# Altium integrated library Analog Devices Data Converters Analog-to-Digital Converters.IntLib: 2404 symbols (part 244 of 346)
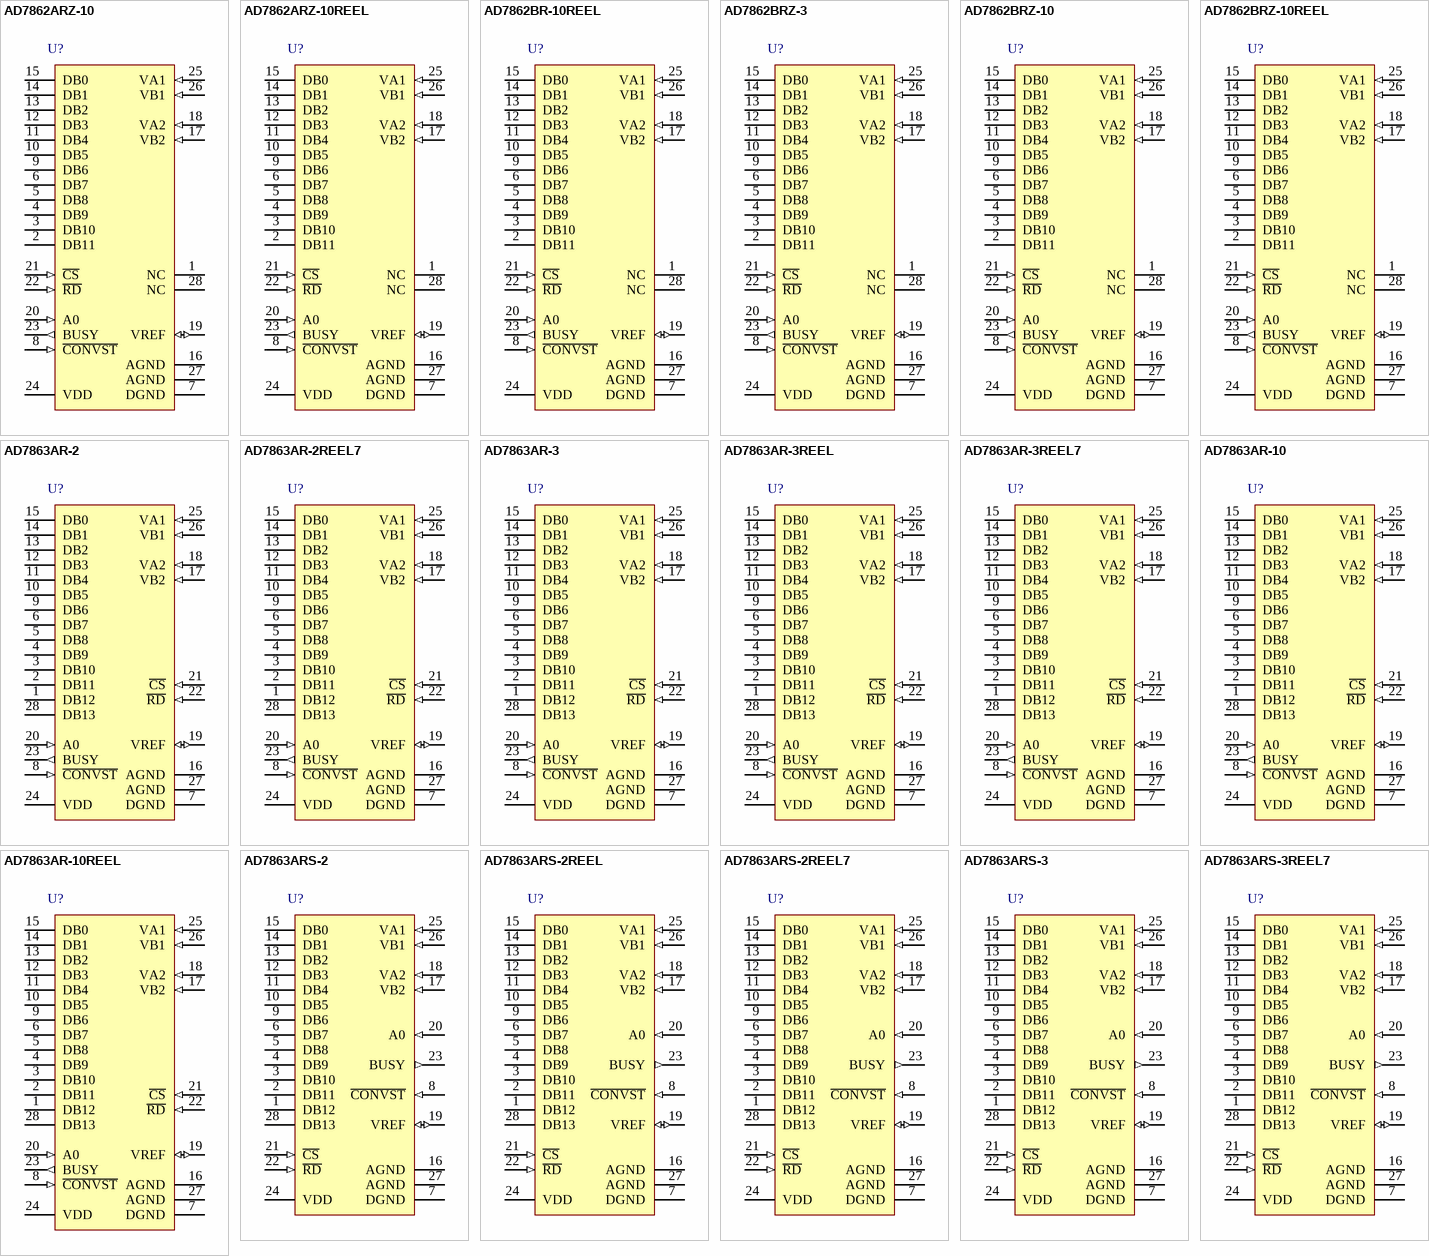
[diagram p285: symbols AD7862ARZ-10 to AD7863ARS-3REEL7]

## AD7863AR-3
designator U?
Quad 14-Bit Analog-to-Digital Converter with Parallel Interface, Simultaneous Sampling, 175KSPS, -40 to +85 degC, RW-28, Tube; Generic Part Number: AD7863; Manufacturer: Analog Devices; PartNumber: AD7863AR-3; Resolution (Bits): 14; Channels: 4; Throughput Rate (SPS): 175K; Interface: Par; DatasheetVersion: Rev.B; PackageVersion: 060706-A; PackageReference: RW-28; PackageDescription: 28-Lead Standard Small Outline Package [SOIC_W]; Supplier 1: Digi-Key; Supplier Part Number 1: AD7863AR-3-ND; Supplier 2: Mouser; Supplier Part Number 2: 584-AD7863AR-3; RoHS: N; Packing: Tube; Mounting Technology: Surface Mount; Code_JEDEC: MS-013-AE; ComponentLink1Description: Manufacturer URL; ComponentLink1URL: http://www.analog.com/en/index.html; ComponentLink2Description: Datasheet; ComponentLink2URL: http://www.analog.com/static/imported-files/data_sheets/AD7863.pdf; ComponentLink3Description: Package Specification; ComponentLink3URL: http://www.analog.com/static/imported-files/packages/35833120341221RW_28.pdf; ComponentLink4Description: Product URL; ComponentLink4URL: http://www.analog.com/en/analog-to-digital-converters/ad-converters/ad7863/products/product.html
footprint RW-28_N (SOIC, 28-Leads, Body 17.9x7.5mm, Pitch 1.27mm, IPC Medium Density)
footprint RW-28_L (SOIC, 28-Leads, Body 17.9x7.5mm, Pitch 1.27mm, IPC High Density)
footprint RW-28_M (SOIC, 28-Leads, Body 17.9x7.5mm, Pitch 1.27mm, IPC Low Density)
pins: 1 DB12 (hiz) "Data Bit 12 to Data Bit 7. Three-state TTL outputs.", 2 DB11 (hiz) "Data Bit 12 to Data Bit 7. Three-state TTL outputs.", 3 DB10 (hiz) "Data Bit 12 to Data Bit 7. Three-state TTL outputs.", 4 DB9 (hiz) "Data Bit 12 to Data Bit 7. Three-state TTL outputs.", 5 DB8 (hiz) "Data Bit 12 to Data Bit 7. Three-state TTL outputs.", 6 DB7 (hiz) "Data Bit 12 to Data Bit 7. Three-state TTL outputs.", 7 DGND (power) "Digital Ground. Ground reference for digital circuitry.", 8 ~{CONVST} (in) "Convert Start Input. Logic input. A high-to-low transition on this input puts both track/holds into their hold mode and starts conversion on both channels.", 9 DB6 (hiz) "Data Bit 6 to Data Bit 0. Three-state TTL outputs.", 10 DB5 (hiz) "Data Bit 6 to Data Bit 0. Three-state TTL outputs.", 11 DB4 (hiz) "Data Bit 6 to Data Bit 0. Three-state TTL outputs.", 12 DB3 (hiz) "Data Bit 6 to Data Bit 0. Three-state TTL outputs.", 13 DB2 (hiz) "Data Bit 6 to Data Bit 0. Three-state TTL outputs.", 14 DB1 (hiz) "Data Bit 6 to Data Bit 0. Three-state TTL outputs.", 15 DB0 (hiz) "Data Bit 6 to Data Bit 0. Three-state TTL outputs.", 16 AGND (power) "Analog Ground. Ground reference for mux, track/hold, reference, and DAC circuitry.", 17 VB2 (in) "Input Number 2 of Channel B. Analog input voltage ranges of +/-10 V (AD7863-10), +/-2.5 V (AD7863-3), and 0 V to 2.5 V (AD7863-2).", 18 VA2 (in) "Input Number 2 of Channel A. Analog input voltage ranges of +/-10 V (AD7863-10), +/-2.5 V (AD7863-3), and 0 V to 2.5 V (AD7863-2).", 19 VREF (io) "Reference Input/Output. This pin is connected to the internal reference through a series resistor and is the output reference source for the analog-to-digital converter. The nominal reference voltage is 2.5 V, and this (See Datasheet)", 20 A0 (in) "Multiplexer Select. This input is used in conjunction with C\O\N\V\S\T\  to determine on which pair of channels the conversion is to be performed. If A0 is low when the conversion is initiated, then channels VA1 and VA2 are (See Datasheet)", 21 ~{CS} (in) "Chip Select Input. Active low logic input. The device is selected when this input is active.", 22 ~{RD} (in) "Read Input. Active low logic input. This input is used in conjunction with C\S\  low to enable the data outputs and read a conversion result from the AD7863.", 23 BUSY (out) "Busy Output. The busy output is triggered high by the falling edge of C\O\N\V\S\T\  and remains high until conversion is completed.", 24 VDD (power) "Analog and Digital Positive Supply Voltage, 5.0 V +/- 5%.", 25 VA1 (in) "Input Number 1 of Channel A. Analog input voltage ranges of +/-10 V (AD7863-10), +/-2.5 V (AD7863-3), and 0 V to 2.5 V (AD7863-2).", 26 VB1 (in) "Input Number 1 of Channel B. Analog input voltage ranges of +/-10 V (AD7863-10), +/-2.5 V (AD7863-3), and 0 V to 2.5 V (AD7863-2).", 27 AGND (power) "Analog Ground. Ground reference for mux, track/hold, reference, and DAC circuitry.", 28 DB13 (hiz) "Data Bit 13 (MSB). Three-state TTL output. Output coding is twos complement for the AD7863-10 and AD7863-3. Output coding is straight (natural) binary for the AD7863-2."

## AD7863AR-3REEL
designator U?
Quad 14-Bit Analog-to-Digital Converter with Parallel Interface, Simultaneous Sampling, 175KSPS, 0 to +70 degC, RW-28, Reel; Generic Part Number: AD7863; Manufacturer: Analog Devices; PartNumber: AD7863AR-3REEL; Resolution (Bits): 14; Channels: 4; Throughput Rate (SPS): 175K; Interface: Par; DatasheetVersion: Rev.B; PackageVersion: 060706-A; PackageReference: RW-28; PackageDescription: 28-Lead Standard Small Outline Package [SOIC_W]; Supplier 1: Digi-Key; Supplier Part Number 1: AD7863AR-3REEL-ND; Supplier 2: Mouser; Supplier Part Number 2: 584-AD7863AR-3R; RoHS: N; Packing: Reel; Mounting Technology: Surface Mount; Code_JEDEC: MS-013-AE; ComponentLink1Description: Manufacturer URL; ComponentLink1URL: http://www.analog.com/en/index.html; ComponentLink2Description: Datasheet; ComponentLink2URL: http://www.analog.com/static/imported-files/data_sheets/AD7863.pdf; ComponentLink3Description: Package Specification; ComponentLink3URL: http://www.analog.com/static/imported-files/packages/35833120341221RW_28.pdf; ComponentLink4Description: Product URL; ComponentLink4URL: http://www.analog.com/en/analog-to-digital-converters/ad-converters/ad7863/products/product.html
footprint RW-28_N (SOIC, 28-Leads, Body 17.9x7.5mm, Pitch 1.27mm, IPC Medium Density)
footprint RW-28_L (SOIC, 28-Leads, Body 17.9x7.5mm, Pitch 1.27mm, IPC High Density)
footprint RW-28_M (SOIC, 28-Leads, Body 17.9x7.5mm, Pitch 1.27mm, IPC Low Density)
pins: 1 DB12 (hiz) "Data Bit 12 to Data Bit 7. Three-state TTL outputs.", 2 DB11 (hiz) "Data Bit 12 to Data Bit 7. Three-state TTL outputs.", 3 DB10 (hiz) "Data Bit 12 to Data Bit 7. Three-state TTL outputs.", 4 DB9 (hiz) "Data Bit 12 to Data Bit 7. Three-state TTL outputs.", 5 DB8 (hiz) "Data Bit 12 to Data Bit 7. Three-state TTL outputs.", 6 DB7 (hiz) "Data Bit 12 to Data Bit 7. Three-state TTL outputs.", 7 DGND (power) "Digital Ground. Ground reference for digital circuitry.", 8 ~{CONVST} (in) "Convert Start Input. Logic input. A high-to-low transition on this input puts both track/holds into their hold mode and starts conversion on both channels.", 9 DB6 (hiz) "Data Bit 6 to Data Bit 0. Three-state TTL outputs.", 10 DB5 (hiz) "Data Bit 6 to Data Bit 0. Three-state TTL outputs.", 11 DB4 (hiz) "Data Bit 6 to Data Bit 0. Three-state TTL outputs.", 12 DB3 (hiz) "Data Bit 6 to Data Bit 0. Three-state TTL outputs.", 13 DB2 (hiz) "Data Bit 6 to Data Bit 0. Three-state TTL outputs.", 14 DB1 (hiz) "Data Bit 6 to Data Bit 0. Three-state TTL outputs.", 15 DB0 (hiz) "Data Bit 6 to Data Bit 0. Three-state TTL outputs.", 16 AGND (power) "Analog Ground. Ground reference for mux, track/hold, reference, and DAC circuitry.", 17 VB2 (in) "Input Number 2 of Channel B. Analog input voltage ranges of +/-10 V (AD7863-10), +/-2.5 V (AD7863-3), and 0 V to 2.5 V (AD7863-2).", 18 VA2 (in) "Input Number 2 of Channel A. Analog input voltage ranges of +/-10 V (AD7863-10), +/-2.5 V (AD7863-3), and 0 V to 2.5 V (AD7863-2).", 19 VREF (io) "Reference Input/Output. This pin is connected to the internal reference through a series resistor and is the output reference source for the analog-to-digital converter. The nominal reference voltage is 2.5 V, and this (See Datasheet)", 20 A0 (in) "Multiplexer Select. This input is used in conjunction with C\O\N\V\S\T\  to determine on which pair of channels the conversion is to be performed. If A0 is low when the conversion is initiated, then channels VA1 and VA2 are (See Datasheet)", 21 ~{CS} (in) "Chip Select Input. Active low logic input. The device is selected when this input is active.", 22 ~{RD} (in) "Read Input. Active low logic input. This input is used in conjunction with C\S\  low to enable the data outputs and read a conversion result from the AD7863.", 23 BUSY (out) "Busy Output. The busy output is triggered high by the falling edge of C\O\N\V\S\T\  and remains high until conversion is completed.", 24 VDD (power) "Analog and Digital Positive Supply Voltage, 5.0 V +/- 5%.", 25 VA1 (in) "Input Number 1 of Channel A. Analog input voltage ranges of +/-10 V (AD7863-10), +/-2.5 V (AD7863-3), and 0 V to 2.5 V (AD7863-2).", 26 VB1 (in) "Input Number 1 of Channel B. Analog input voltage ranges of +/-10 V (AD7863-10), +/-2.5 V (AD7863-3), and 0 V to 2.5 V (AD7863-2).", 27 AGND (power) "Analog Ground. Ground reference for mux, track/hold, reference, and DAC circuitry.", 28 DB13 (hiz) "Data Bit 13 (MSB). Three-state TTL output. Output coding is twos complement for the AD7863-10 and AD7863-3. Output coding is straight (natural) binary for the AD7863-2."

## AD7863AR-3REEL7
designator U?
Quad 14-Bit Analog-to-Digital Converter with Parallel Interface, Simultaneous Sampling, 175KSPS, 0 to +70 degC, RW-28, Reel; Generic Part Number: AD7863; Manufacturer: Analog Devices; PartNumber: AD7863AR-3REEL7; Resolution (Bits): 14; Channels: 4; Throughput Rate (SPS): 175K; Interface: Par; DatasheetVersion: Rev.B; PackageVersion: 060706-A; PackageReference: RW-28; PackageDescription: 28-Lead Standard Small Outline Package [SOIC_W]; Supplier 1: Digi-Key; Supplier Part Number 1: AD7863AR-3REEL7-ND; Supplier 2: Mouser; Supplier Part Number 2: 584-AD7863AR-3R7; RoHS: N; Packing: Reel; Mounting Technology: Surface Mount; Code_JEDEC: MS-013-AE; ComponentLink1Description: Manufacturer URL; ComponentLink1URL: http://www.analog.com/en/index.html; ComponentLink2Description: Datasheet; ComponentLink2URL: http://www.analog.com/static/imported-files/data_sheets/AD7863.pdf; ComponentLink3Description: Package Specification; ComponentLink3URL: http://www.analog.com/static/imported-files/packages/35833120341221RW_28.pdf; ComponentLink4Description: Product URL; ComponentLink4URL: http://www.analog.com/en/analog-to-digital-converters/ad-converters/ad7863/products/product.html
footprint RW-28_N (SOIC, 28-Leads, Body 17.9x7.5mm, Pitch 1.27mm, IPC Medium Density)
footprint RW-28_L (SOIC, 28-Leads, Body 17.9x7.5mm, Pitch 1.27mm, IPC High Density)
footprint RW-28_M (SOIC, 28-Leads, Body 17.9x7.5mm, Pitch 1.27mm, IPC Low Density)
pins: 1 DB12 (hiz) "Data Bit 12 to Data Bit 7. Three-state TTL outputs.", 2 DB11 (hiz) "Data Bit 12 to Data Bit 7. Three-state TTL outputs.", 3 DB10 (hiz) "Data Bit 12 to Data Bit 7. Three-state TTL outputs.", 4 DB9 (hiz) "Data Bit 12 to Data Bit 7. Three-state TTL outputs.", 5 DB8 (hiz) "Data Bit 12 to Data Bit 7. Three-state TTL outputs.", 6 DB7 (hiz) "Data Bit 12 to Data Bit 7. Three-state TTL outputs.", 7 DGND (power) "Digital Ground. Ground reference for digital circuitry.", 8 ~{CONVST} (in) "Convert Start Input. Logic input. A high-to-low transition on this input puts both track/holds into their hold mode and starts conversion on both channels.", 9 DB6 (hiz) "Data Bit 6 to Data Bit 0. Three-state TTL outputs.", 10 DB5 (hiz) "Data Bit 6 to Data Bit 0. Three-state TTL outputs.", 11 DB4 (hiz) "Data Bit 6 to Data Bit 0. Three-state TTL outputs.", 12 DB3 (hiz) "Data Bit 6 to Data Bit 0. Three-state TTL outputs.", 13 DB2 (hiz) "Data Bit 6 to Data Bit 0. Three-state TTL outputs.", 14 DB1 (hiz) "Data Bit 6 to Data Bit 0. Three-state TTL outputs.", 15 DB0 (hiz) "Data Bit 6 to Data Bit 0. Three-state TTL outputs.", 16 AGND (power) "Analog Ground. Ground reference for mux, track/hold, reference, and DAC circuitry.", 17 VB2 (in) "Input Number 2 of Channel B. Analog input voltage ranges of +/-10 V (AD7863-10), +/-2.5 V (AD7863-3), and 0 V to 2.5 V (AD7863-2).", 18 VA2 (in) "Input Number 2 of Channel A. Analog input voltage ranges of +/-10 V (AD7863-10), +/-2.5 V (AD7863-3), and 0 V to 2.5 V (AD7863-2).", 19 VREF (io) "Reference Input/Output. This pin is connected to the internal reference through a series resistor and is the output reference source for the analog-to-digital converter. The nominal reference voltage is 2.5 V, and this (See Datasheet)", 20 A0 (in) "Multiplexer Select. This input is used in conjunction with C\O\N\V\S\T\  to determine on which pair of channels the conversion is to be performed. If A0 is low when the conversion is initiated, then channels VA1 and VA2 are (See Datasheet)", 21 ~{CS} (in) "Chip Select Input. Active low logic input. The device is selected when this input is active.", 22 ~{RD} (in) "Read Input. Active low logic input. This input is used in conjunction with C\S\  low to enable the data outputs and read a conversion result from the AD7863.", 23 BUSY (out) "Busy Output. The busy output is triggered high by the falling edge of C\O\N\V\S\T\  and remains high until conversion is completed.", 24 VDD (power) "Analog and Digital Positive Supply Voltage, 5.0 V +/- 5%.", 25 VA1 (in) "Input Number 1 of Channel A. Analog input voltage ranges of +/-10 V (AD7863-10), +/-2.5 V (AD7863-3), and 0 V to 2.5 V (AD7863-2).", 26 VB1 (in) "Input Number 1 of Channel B. Analog input voltage ranges of +/-10 V (AD7863-10), +/-2.5 V (AD7863-3), and 0 V to 2.5 V (AD7863-2).", 27 AGND (power) "Analog Ground. Ground reference for mux, track/hold, reference, and DAC circuitry.", 28 DB13 (hiz) "Data Bit 13 (MSB). Three-state TTL output. Output coding is twos complement for the AD7863-10 and AD7863-3. Output coding is straight (natural) binary for the AD7863-2."

## AD7863AR-10
designator U?
Quad 14-Bit Analog-to-Digital Converter with Parallel Interface, Simultaneous Sampling, 175KSPS, -40 to +85 degC, RW-28, Tube; Generic Part Number: AD7863; Manufacturer: Analog Devices; PartNumber: AD7863AR-10; Resolution (Bits): 14; Channels: 4; Throughput Rate (SPS): 175K; Interface: Par; DatasheetVersion: Rev.B; PackageVersion: 060706-A; PackageReference: RW-28; PackageDescription: 28-Lead Standard Small Outline Package [SOIC_W]; Supplier 1: Digi-Key; Supplier Part Number 1: AD7863AR-10-ND; Supplier 2: Newark; Supplier Part Number 2: 48F1959; Supplier 3: Mouser; Supplier Part Number 3: 584-AD7863AR-10; RoHS: N; Packing: Tube; Mounting Technology: Surface Mount; Code_JEDEC: MS-013-AE; ComponentLink1Description: Manufacturer URL; ComponentLink1URL: http://www.analog.com/en/index.html; ComponentLink2Description: Datasheet; ComponentLink2URL: http://www.analog.com/static/imported-files/data_sheets/AD7863.pdf; ComponentLink3Description: Package Specification; ComponentLink3URL: http://www.analog.com/static/imported-files/packages/35833120341221RW_28.pdf; ComponentLink4Description: Product URL; ComponentLink4URL: http://www.analog.com/en/analog-to-digital-converters/ad-converters/ad7863/products/product.html
footprint RW-28_N (SOIC, 28-Leads, Body 17.9x7.5mm, Pitch 1.27mm, IPC Medium Density)
footprint RW-28_L (SOIC, 28-Leads, Body 17.9x7.5mm, Pitch 1.27mm, IPC High Density)
footprint RW-28_M (SOIC, 28-Leads, Body 17.9x7.5mm, Pitch 1.27mm, IPC Low Density)
pins: 1 DB12 (hiz) "Data Bit 12 to Data Bit 7. Three-state TTL outputs.", 2 DB11 (hiz) "Data Bit 12 to Data Bit 7. Three-state TTL outputs.", 3 DB10 (hiz) "Data Bit 12 to Data Bit 7. Three-state TTL outputs.", 4 DB9 (hiz) "Data Bit 12 to Data Bit 7. Three-state TTL outputs.", 5 DB8 (hiz) "Data Bit 12 to Data Bit 7. Three-state TTL outputs.", 6 DB7 (hiz) "Data Bit 12 to Data Bit 7. Three-state TTL outputs.", 7 DGND (power) "Digital Ground. Ground reference for digital circuitry.", 8 ~{CONVST} (in) "Convert Start Input. Logic input. A high-to-low transition on this input puts both track/holds into their hold mode and starts conversion on both channels.", 9 DB6 (hiz) "Data Bit 6 to Data Bit 0. Three-state TTL outputs.", 10 DB5 (hiz) "Data Bit 6 to Data Bit 0. Three-state TTL outputs.", 11 DB4 (hiz) "Data Bit 6 to Data Bit 0. Three-state TTL outputs.", 12 DB3 (hiz) "Data Bit 6 to Data Bit 0. Three-state TTL outputs.", 13 DB2 (hiz) "Data Bit 6 to Data Bit 0. Three-state TTL outputs.", 14 DB1 (hiz) "Data Bit 6 to Data Bit 0. Three-state TTL outputs.", 15 DB0 (hiz) "Data Bit 6 to Data Bit 0. Three-state TTL outputs.", 16 AGND (power) "Analog Ground. Ground reference for mux, track/hold, reference, and DAC circuitry.", 17 VB2 (in) "Input Number 2 of Channel B. Analog input voltage ranges of +/-10 V (AD7863-10), +/-2.5 V (AD7863-3), and 0 V to 2.5 V (AD7863-2).", 18 VA2 (in) "Input Number 2 of Channel A. Analog input voltage ranges of +/-10 V (AD7863-10), +/-2.5 V (AD7863-3), and 0 V to 2.5 V (AD7863-2).", 19 VREF (io) "Reference Input/Output. This pin is connected to the internal reference through a series resistor and is the output reference source for the analog-to-digital converter. The nominal reference voltage is 2.5 V, and this (See Datasheet)", 20 A0 (in) "Multiplexer Select. This input is used in conjunction with C\O\N\V\S\T\  to determine on which pair of channels the conversion is to be performed. If A0 is low when the conversion is initiated, then channels VA1 and VA2 are (See Datasheet)", 21 ~{CS} (in) "Chip Select Input. Active low logic input. The device is selected when this input is active.", 22 ~{RD} (in) "Read Input. Active low logic input. This input is used in conjunction with C\S\  low to enable the data outputs and read a conversion result from the AD7863.", 23 BUSY (out) "Busy Output. The busy output is triggered high by the falling edge of C\O\N\V\S\T\  and remains high until conversion is completed.", 24 VDD (power) "Analog and Digital Positive Supply Voltage, 5.0 V +/- 5%.", 25 VA1 (in) "Input Number 1 of Channel A. Analog input voltage ranges of +/-10 V (AD7863-10), +/-2.5 V (AD7863-3), and 0 V to 2.5 V (AD7863-2).", 26 VB1 (in) "Input Number 1 of Channel B. Analog input voltage ranges of +/-10 V (AD7863-10), +/-2.5 V (AD7863-3), and 0 V to 2.5 V (AD7863-2).", 27 AGND (power) "Analog Ground. Ground reference for mux, track/hold, reference, and DAC circuitry.", 28 DB13 (hiz) "Data Bit 13 (MSB). Three-state TTL output. Output coding is twos complement for the AD7863-10 and AD7863-3. Output coding is straight (natural) binary for the AD7863-2."

## AD7863AR-10REEL
designator U?
Quad 14-Bit Analog-to-Digital Converter with Parallel Interface, Simultaneous Sampling, 175KSPS, -40 to +85 degC, RW-28, Reel; Generic Part Number: AD7863; Manufacturer: Analog Devices; PartNumber: AD7863AR-10REEL; Resolution (Bits): 14; Channels: 4; Throughput Rate (SPS): 175K; Interface: Par; DatasheetVersion: Rev.B; PackageVersion: 060706-A; PackageReference: RW-28; PackageDescription: 28-Lead Standard Small Outline Package [SOIC_W]; Supplier 1: Digi-Key; Supplier Part Number 1: AD7863AR-10REEL-ND; Supplier 2: Newark; Supplier Part Number 2: 09B6138; Supplier 3: Mouser; Supplier Part Number 3: 584-AD7863AR-10R; RoHS: N; Packing: Reel; Mounting Technology: Surface Mount; Code_JEDEC: MS-013-AE; ComponentLink1Description: Manufacturer URL; ComponentLink1URL: http://www.analog.com/en/index.html; ComponentLink2Description: Datasheet; ComponentLink2URL: http://www.analog.com/static/imported-files/data_sheets/AD7863.pdf; ComponentLink3Description: Package Specification; ComponentLink3URL: http://www.analog.com/static/imported-files/packages/35833120341221RW_28.pdf; ComponentLink4Description: Product URL; ComponentLink4URL: http://www.analog.com/en/analog-to-digital-converters/ad-converters/ad7863/products/product.html
footprint RW-28_N (SOIC, 28-Leads, Body 17.9x7.5mm, Pitch 1.27mm, IPC Medium Density)
footprint RW-28_L (SOIC, 28-Leads, Body 17.9x7.5mm, Pitch 1.27mm, IPC High Density)
footprint RW-28_M (SOIC, 28-Leads, Body 17.9x7.5mm, Pitch 1.27mm, IPC Low Density)
pins: 1 DB12 (hiz) "Data Bit 12 to Data Bit 7. Three-state TTL outputs.", 2 DB11 (hiz) "Data Bit 12 to Data Bit 7. Three-state TTL outputs.", 3 DB10 (hiz) "Data Bit 12 to Data Bit 7. Three-state TTL outputs.", 4 DB9 (hiz) "Data Bit 12 to Data Bit 7. Three-state TTL outputs.", 5 DB8 (hiz) "Data Bit 12 to Data Bit 7. Three-state TTL outputs.", 6 DB7 (hiz) "Data Bit 12 to Data Bit 7. Three-state TTL outputs.", 7 DGND (power) "Digital Ground. Ground reference for digital circuitry.", 8 ~{CONVST} (in) "Convert Start Input. Logic input. A high-to-low transition on this input puts both track/holds into their hold mode and starts conversion on both channels.", 9 DB6 (hiz) "Data Bit 6 to Data Bit 0. Three-state TTL outputs.", 10 DB5 (hiz) "Data Bit 6 to Data Bit 0. Three-state TTL outputs.", 11 DB4 (hiz) "Data Bit 6 to Data Bit 0. Three-state TTL outputs.", 12 DB3 (hiz) "Data Bit 6 to Data Bit 0. Three-state TTL outputs.", 13 DB2 (hiz) "Data Bit 6 to Data Bit 0. Three-state TTL outputs.", 14 DB1 (hiz) "Data Bit 6 to Data Bit 0. Three-state TTL outputs.", 15 DB0 (hiz) "Data Bit 6 to Data Bit 0. Three-state TTL outputs.", 16 AGND (power) "Analog Ground. Ground reference for mux, track/hold, reference, and DAC circuitry.", 17 VB2 (in) "Input Number 2 of Channel B. Analog input voltage ranges of +/-10 V (AD7863-10), +/-2.5 V (AD7863-3), and 0 V to 2.5 V (AD7863-2).", 18 VA2 (in) "Input Number 2 of Channel A. Analog input voltage ranges of +/-10 V (AD7863-10), +/-2.5 V (AD7863-3), and 0 V to 2.5 V (AD7863-2).", 19 VREF (io) "Reference Input/Output. This pin is connected to the internal reference through a series resistor and is the output reference source for the analog-to-digital converter. The nominal reference voltage is 2.5 V, and this (See Datasheet)", 20 A0 (in) "Multiplexer Select. This input is used in conjunction with C\O\N\V\S\T\  to determine on which pair of channels the conversion is to be performed. If A0 is low when the conversion is initiated, then channels VA1 and VA2 are (See Datasheet)", 21 ~{CS} (in) "Chip Select Input. Active low logic input. The device is selected when this input is active.", 22 ~{RD} (in) "Read Input. Active low logic input. This input is used in conjunction with C\S\  low to enable the data outputs and read a conversion result from the AD7863.", 23 BUSY (out) "Busy Output. The busy output is triggered high by the falling edge of C\O\N\V\S\T\  and remains high until conversion is completed.", 24 VDD (power) "Analog and Digital Positive Supply Voltage, 5.0 V +/- 5%.", 25 VA1 (in) "Input Number 1 of Channel A. Analog input voltage ranges of +/-10 V (AD7863-10), +/-2.5 V (AD7863-3), and 0 V to 2.5 V (AD7863-2).", 26 VB1 (in) "Input Number 1 of Channel B. Analog input voltage ranges of +/-10 V (AD7863-10), +/-2.5 V (AD7863-3), and 0 V to 2.5 V (AD7863-2).", 27 AGND (power) "Analog Ground. Ground reference for mux, track/hold, reference, and DAC circuitry.", 28 DB13 (hiz) "Data Bit 13 (MSB). Three-state TTL output. Output coding is twos complement for the AD7863-10 and AD7863-3. Output coding is straight (natural) binary for the AD7863-2."

## AD7863ARS-2
designator U?
Quad 14-Bit Analog-to-Digital Converter with Parallel Interface, Simultaneous Sampling, 175KSPS, -40 to +85 degC, RS-28, Tube; Generic Part Number: AD7863; Manufacturer: Analog Devices; PartNumber: AD7863ARS-2; Resolution (Bits): 14; Channels: 4; Throughput Rate (SPS): 175K; Interface: Par; DatasheetVersion: Rev.B; PackageVersion: 060106-A; PackageReference: RS-28; PackageDescription: 28-Lead Shrink Small Outline Package [SSOP]; Supplier 1: Digi-Key; Supplier Part Number 1: AD7863ARS-2-ND; Supplier 2: Mouser; Supplier Part Number 2: 584-AD7863ARS-2; RoHS: N; Packing: Tube; Mounting Technology: Surface Mount; Code_JEDEC: MO-150-AH; ComponentLink1Description: Manufacturer URL; ComponentLink1URL: http://www.analog.com/en/index.html; ComponentLink2Description: Datasheet; ComponentLink2URL: http://www.analog.com/static/imported-files/data_sheets/AD7863.pdf; ComponentLink3Description: Package Specification; ComponentLink3URL: http://www.analog.com/static/imported-files/packages/32122249223724RS_28.pdf; ComponentLink4Description: Product URL; ComponentLink4URL: http://www.analog.com/en/analog-to-digital-converters/ad-converters/ad7863/products/product.html
footprint RS-28_N (SOP, 28-Leads, Body 10.2x5.3mm, Pitch 0.65mm, IPC Medium Density)
footprint RS-28_L (SOP, 28-Leads, Body 10.2x5.3mm, Pitch 0.65mm, IPC High Density)
footprint RS-28_M (SOP, 28-Leads, Body 10.2x5.3mm, Pitch 0.65mm, IPC Low Density)
pins: 1 DB12 (hiz) "Data Bit 12. Three-state TTL outputs.", 2 DB11 (hiz) "Data Bit 11. Three-state TTL outputs.", 3 DB10 (hiz) "Data Bit 10. Three-state TTL outputs.", 4 DB9 (hiz) "Data Bit 9. Three-state TTL outputs.", 5 DB8 (hiz) "Data Bit 8. Three-state TTL outputs.", 6 DB7 (hiz) "Data Bit 7. Three-state TTL outputs.", 7 DGND (power) "Digital Ground. Ground reference for digital circuitry.", 8 ~{CONVST} (in) "Convert Start Input. Logic input. A high-to-low transition on this input puts both track/holds into their hold mode and starts conversion on both channels.", 9 DB6 (hiz) "Data Bit 6. Three-state TTL outputs.", 10 DB5 (hiz) "Data Bit 5. Three-state TTL outputs.", 11 DB4 (hiz) "Data Bit 4. Three-state TTL outputs.", 12 DB3 (hiz) "Data Bit 3. Three-state TTL outputs.", 13 DB2 (hiz) "Data Bit 2. Three-state TTL outputs.", 14 DB1 (hiz) "Data Bit 1. Three-state TTL outputs.", 15 DB0 (hiz) "Data Bit 0. Three-state TTL outputs.", 16 AGND (power) "Analog Ground. Ground reference for mux, track/hold, reference, and DAC circuitry.", 17 VB2 (in) "Input Number 2 of Channel B. Analog input voltage ranges of +/-10 V (AD7863-10), +/-2.5 V (AD7863-3), and 0 V to 2.5 V (AD7863-2).", 18 VA2 (in) "Input Number 2 of Channel A. Analog input voltage ranges of +/-10 V (AD7863-10), +/-2.5 V (AD7863-3), and 0 V to 2.5 V (AD7863-2).", 19 VREF (io) "Reference Input/Output. This pin is connected to the internal reference through a series resistor and is the output reference source for the analog-to-digital converter. The nominal reference voltage is 2.5 V, and this (See Datasheet)", 20 A0 (in) "Multiplexer Select. This input is used in conjunction with C\O\N\V\S\T\ to determine on which pair of channels the conversion is to be performed. If A0 is low when the conversion is initiated, then channels VA1 and VA2 are (See Datasheet)", 21 ~{CS} (in) "Chip Select Input. Active low logic input. The device is selected when this input is active.", 22 ~{RD} (in) "Read Input. Active low logic input. This input is used in conjunction with C\S\ low to enable the data outputs and read a conversion result from the AD7863.", 23 BUSY (out) "Busy Output. The busy output is triggered high by the falling edge of C\O\N\V\S\T\ and remains high until conversion is completed.", 24 VDD (power) "Analog and Digital Positive Supply Voltage, 5.0 V +/- 5%.", 25 VA1 (in) "Input Number 1 of Channel A. Analog input voltage ranges of +/-10 V (AD7863-10), +/-2.5 V (AD7863-3), and 0 V to 2.5 V (AD7863-2).", 26 VB1 (in) "Input Number 1 of Channel B. Analog input voltage ranges of +/-10 V (AD7863-10), +/-2.5 V (AD7863-3), and 0 V to 2.5 V (AD7863-2).", 27 AGND (power) "Analog Ground. Ground reference for mux, track/hold, reference, and DAC circuitry.", 28 DB13 (hiz) "Data Bit 13 (MSB). Three-state TTL output. Output coding is twos complement for the AD7863-10 and AD7863-3. Output coding is straight (natural) binary for the AD7863-2."

## AD7863ARS-2REEL
designator U?
Quad 14-Bit Analog-to-Digital Converter with Parallel Interface, Simultaneous Sampling, 175KSPS, -40 to +85 degC, RS-28, Reel; Generic Part Number: AD7863; Manufacturer: Analog Devices; PartNumber: AD7863ARS-2REEL; Resolution (Bits): 14; Channels: 4; Throughput Rate (SPS): 175K; Interface: Par; DatasheetVersion: Rev.B; PackageVersion: 060106-A; PackageReference: RS-28; PackageDescription: 28-Lead Shrink Small Outline Package [SSOP]; Supplier 1: Digi-Key; Supplier Part Number 1: AD7863ARS-2REEL-ND; Supplier 2: Mouser; Supplier Part Number 2: 584-AD7863ARS-2R; RoHS: N; Packing: Reel; Mounting Technology: Surface Mount; Code_JEDEC: MO-150-AH; ComponentLink1Description: Manufacturer URL; ComponentLink1URL: http://www.analog.com/en/index.html; ComponentLink2Description: Datasheet; ComponentLink2URL: http://www.analog.com/static/imported-files/data_sheets/AD7863.pdf; ComponentLink3Description: Package Specification; ComponentLink3URL: http://www.analog.com/static/imported-files/packages/32122249223724RS_28.pdf; ComponentLink4Description: Product URL; ComponentLink4URL: http://www.analog.com/en/analog-to-digital-converters/ad-converters/ad7863/products/product.html
footprint RS-28_N (SOP, 28-Leads, Body 10.2x5.3mm, Pitch 0.65mm, IPC Medium Density)
footprint RS-28_L (SOP, 28-Leads, Body 10.2x5.3mm, Pitch 0.65mm, IPC High Density)
footprint RS-28_M (SOP, 28-Leads, Body 10.2x5.3mm, Pitch 0.65mm, IPC Low Density)
pins: 1 DB12 (hiz) "Data Bit 12. Three-state TTL outputs.", 2 DB11 (hiz) "Data Bit 11. Three-state TTL outputs.", 3 DB10 (hiz) "Data Bit 10. Three-state TTL outputs.", 4 DB9 (hiz) "Data Bit 9. Three-state TTL outputs.", 5 DB8 (hiz) "Data Bit 8. Three-state TTL outputs.", 6 DB7 (hiz) "Data Bit 7. Three-state TTL outputs.", 7 DGND (power) "Digital Ground. Ground reference for digital circuitry.", 8 ~{CONVST} (in) "Convert Start Input. Logic input. A high-to-low transition on this input puts both track/holds into their hold mode and starts conversion on both channels.", 9 DB6 (hiz) "Data Bit 6. Three-state TTL outputs.", 10 DB5 (hiz) "Data Bit 5. Three-state TTL outputs.", 11 DB4 (hiz) "Data Bit 4. Three-state TTL outputs.", 12 DB3 (hiz) "Data Bit 3. Three-state TTL outputs.", 13 DB2 (hiz) "Data Bit 2. Three-state TTL outputs.", 14 DB1 (hiz) "Data Bit 1. Three-state TTL outputs.", 15 DB0 (hiz) "Data Bit 0. Three-state TTL outputs.", 16 AGND (power) "Analog Ground. Ground reference for mux, track/hold, reference, and DAC circuitry.", 17 VB2 (in) "Input Number 2 of Channel B. Analog input voltage ranges of +/-10 V (AD7863-10), +/-2.5 V (AD7863-3), and 0 V to 2.5 V (AD7863-2).", 18 VA2 (in) "Input Number 2 of Channel A. Analog input voltage ranges of +/-10 V (AD7863-10), +/-2.5 V (AD7863-3), and 0 V to 2.5 V (AD7863-2).", 19 VREF (io) "Reference Input/Output. This pin is connected to the internal reference through a series resistor and is the output reference source for the analog-to-digital converter. The nominal reference voltage is 2.5 V, and this (See Datasheet)", 20 A0 (in) "Multiplexer Select. This input is used in conjunction with C\O\N\V\S\T\ to determine on which pair of channels the conversion is to be performed. If A0 is low when the conversion is initiated, then channels VA1 and VA2 are (See Datasheet)", 21 ~{CS} (in) "Chip Select Input. Active low logic input. The device is selected when this input is active.", 22 ~{RD} (in) "Read Input. Active low logic input. This input is used in conjunction with C\S\ low to enable the data outputs and read a conversion result from the AD7863.", 23 BUSY (out) "Busy Output. The busy output is triggered high by the falling edge of C\O\N\V\S\T\ and remains high until conversion is completed.", 24 VDD (power) "Analog and Digital Positive Supply Voltage, 5.0 V +/- 5%.", 25 VA1 (in) "Input Number 1 of Channel A. Analog input voltage ranges of +/-10 V (AD7863-10), +/-2.5 V (AD7863-3), and 0 V to 2.5 V (AD7863-2).", 26 VB1 (in) "Input Number 1 of Channel B. Analog input voltage ranges of +/-10 V (AD7863-10), +/-2.5 V (AD7863-3), and 0 V to 2.5 V (AD7863-2).", 27 AGND (power) "Analog Ground. Ground reference for mux, track/hold, reference, and DAC circuitry.", 28 DB13 (hiz) "Data Bit 13 (MSB). Three-state TTL output. Output coding is twos complement for the AD7863-10 and AD7863-3. Output coding is straight (natural) binary for the AD7863-2."

## AD7863ARS-2REEL7
designator U?
Quad 14-Bit Analog-to-Digital Converter with Parallel Interface, Simultaneous Sampling, 175KSPS, -40 to +85 degC, RS-28, Reel; Generic Part Number: AD7863; Manufacturer: Analog Devices; PartNumber: AD7863ARS-2REEL7; Resolution (Bits): 14; Channels: 4; Throughput Rate (SPS): 175K; Interface: Par; DatasheetVersion: Rev.B; PackageVersion: 060106-A; PackageReference: RS-28; PackageDescription: 28-Lead Shrink Small Outline Package [SSOP]; Supplier 1: Digi-Key; Supplier Part Number 1: AD7863ARS-2REEL7-ND; Supplier 2: Mouser; Supplier Part Number 2: 584-AD7863ARS-2R7; RoHS: N; Packing: Reel; Mounting Technology: Surface Mount; Code_JEDEC: MO-150-AH; ComponentLink1Description: Manufacturer URL; ComponentLink1URL: http://www.analog.com/en/index.html; ComponentLink2Description: Datasheet; ComponentLink2URL: http://www.analog.com/static/imported-files/data_sheets/AD7863.pdf; ComponentLink3Description: Package Specification; ComponentLink3URL: http://www.analog.com/static/imported-files/packages/32122249223724RS_28.pdf; ComponentLink4Description: Product URL; ComponentLink4URL: http://www.analog.com/en/analog-to-digital-converters/ad-converters/ad7863/products/product.html
footprint RS-28_N (SOP, 28-Leads, Body 10.2x5.3mm, Pitch 0.65mm, IPC Medium Density)
footprint RS-28_L (SOP, 28-Leads, Body 10.2x5.3mm, Pitch 0.65mm, IPC High Density)
footprint RS-28_M (SOP, 28-Leads, Body 10.2x5.3mm, Pitch 0.65mm, IPC Low Density)
pins: 1 DB12 (hiz) "Data Bit 12. Three-state TTL outputs.", 2 DB11 (hiz) "Data Bit 11. Three-state TTL outputs.", 3 DB10 (hiz) "Data Bit 10. Three-state TTL outputs.", 4 DB9 (hiz) "Data Bit 9. Three-state TTL outputs.", 5 DB8 (hiz) "Data Bit 8. Three-state TTL outputs.", 6 DB7 (hiz) "Data Bit 7. Three-state TTL outputs.", 7 DGND (power) "Digital Ground. Ground reference for digital circuitry.", 8 ~{CONVST} (in) "Convert Start Input. Logic input. A high-to-low transition on this input puts both track/holds into their hold mode and starts conversion on both channels.", 9 DB6 (hiz) "Data Bit 6. Three-state TTL outputs.", 10 DB5 (hiz) "Data Bit 5. Three-state TTL outputs.", 11 DB4 (hiz) "Data Bit 4. Three-state TTL outputs.", 12 DB3 (hiz) "Data Bit 3. Three-state TTL outputs.", 13 DB2 (hiz) "Data Bit 2. Three-state TTL outputs.", 14 DB1 (hiz) "Data Bit 1. Three-state TTL outputs.", 15 DB0 (hiz) "Data Bit 0. Three-state TTL outputs.", 16 AGND (power) "Analog Ground. Ground reference for mux, track/hold, reference, and DAC circuitry.", 17 VB2 (in) "Input Number 2 of Channel B. Analog input voltage ranges of +/-10 V (AD7863-10), +/-2.5 V (AD7863-3), and 0 V to 2.5 V (AD7863-2).", 18 VA2 (in) "Input Number 2 of Channel A. Analog input voltage ranges of +/-10 V (AD7863-10), +/-2.5 V (AD7863-3), and 0 V to 2.5 V (AD7863-2).", 19 VREF (io) "Reference Input/Output. This pin is connected to the internal reference through a series resistor and is the output reference source for the analog-to-digital converter. The nominal reference voltage is 2.5 V, and this (See Datasheet)", 20 A0 (in) "Multiplexer Select. This input is used in conjunction with C\O\N\V\S\T\ to determine on which pair of channels the conversion is to be performed. If A0 is low when the conversion is initiated, then channels VA1 and VA2 are (See Datasheet)", 21 ~{CS} (in) "Chip Select Input. Active low logic input. The device is selected when this input is active.", 22 ~{RD} (in) "Read Input. Active low logic input. This input is used in conjunction with C\S\ low to enable the data outputs and read a conversion result from the AD7863.", 23 BUSY (out) "Busy Output. The busy output is triggered high by the falling edge of C\O\N\V\S\T\ and remains high until conversion is completed.", 24 VDD (power) "Analog and Digital Positive Supply Voltage, 5.0 V +/- 5%.", 25 VA1 (in) "Input Number 1 of Channel A. Analog input voltage ranges of +/-10 V (AD7863-10), +/-2.5 V (AD7863-3), and 0 V to 2.5 V (AD7863-2).", 26 VB1 (in) "Input Number 1 of Channel B. Analog input voltage ranges of +/-10 V (AD7863-10), +/-2.5 V (AD7863-3), and 0 V to 2.5 V (AD7863-2).", 27 AGND (power) "Analog Ground. Ground reference for mux, track/hold, reference, and DAC circuitry.", 28 DB13 (hiz) "Data Bit 13 (MSB). Three-state TTL output. Output coding is twos complement for the AD7863-10 and AD7863-3. Output coding is straight (natural) binary for the AD7863-2."

## AD7863ARS-3
designator U?
Quad 14-Bit Analog-to-Digital Converter with Parallel Interface, Simultaneous Sampling, 175KSPS, -40 to +85 degC, RS-28, Tube; Generic Part Number: AD7863; Manufacturer: Analog Devices; PartNumber: AD7863ARS-3; Resolution (Bits): 14; Channels: 4; Throughput Rate (SPS): 175K; Interface: Par; DatasheetVersion: Rev.B; PackageVersion: 060106-A; PackageReference: RS-28; PackageDescription: 28-Lead Shrink Small Outline Package [SSOP]; Supplier 1: Digi-Key; Supplier Part Number 1: AD7863ARS-3-ND; Supplier 2: Newark; Supplier Part Number 2: 09B6152; Supplier 3: Mouser; Supplier Part Number 3: 584-AD7863ARS-3; RoHS: N; Packing: Tube; Mounting Technology: Surface Mount; Code_JEDEC: MO-150-AH; ComponentLink1Description: Manufacturer URL; ComponentLink1URL: http://www.analog.com/en/index.html; ComponentLink2Description: Datasheet; ComponentLink2URL: http://www.analog.com/static/imported-files/data_sheets/AD7863.pdf; ComponentLink3Description: Package Specification; ComponentLink3URL: http://www.analog.com/static/imported-files/packages/32122249223724RS_28.pdf; ComponentLink4Description: Product URL; ComponentLink4URL: http://www.analog.com/en/analog-to-digital-converters/ad-converters/ad7863/products/product.html
footprint RS-28_N (SOP, 28-Leads, Body 10.2x5.3mm, Pitch 0.65mm, IPC Medium Density)
footprint RS-28_L (SOP, 28-Leads, Body 10.2x5.3mm, Pitch 0.65mm, IPC High Density)
footprint RS-28_M (SOP, 28-Leads, Body 10.2x5.3mm, Pitch 0.65mm, IPC Low Density)
pins: 1 DB12 (hiz) "Data Bit 12. Three-state TTL outputs.", 2 DB11 (hiz) "Data Bit 11. Three-state TTL outputs.", 3 DB10 (hiz) "Data Bit 10. Three-state TTL outputs.", 4 DB9 (hiz) "Data Bit 9. Three-state TTL outputs.", 5 DB8 (hiz) "Data Bit 8. Three-state TTL outputs.", 6 DB7 (hiz) "Data Bit 7. Three-state TTL outputs.", 7 DGND (power) "Digital Ground. Ground reference for digital circuitry.", 8 ~{CONVST} (in) "Convert Start Input. Logic input. A high-to-low transition on this input puts both track/holds into their hold mode and starts conversion on both channels.", 9 DB6 (hiz) "Data Bit 6. Three-state TTL outputs.", 10 DB5 (hiz) "Data Bit 5. Three-state TTL outputs.", 11 DB4 (hiz) "Data Bit 4. Three-state TTL outputs.", 12 DB3 (hiz) "Data Bit 3. Three-state TTL outputs.", 13 DB2 (hiz) "Data Bit 2. Three-state TTL outputs.", 14 DB1 (hiz) "Data Bit 1. Three-state TTL outputs.", 15 DB0 (hiz) "Data Bit 0. Three-state TTL outputs.", 16 AGND (power) "Analog Ground. Ground reference for mux, track/hold, reference, and DAC circuitry.", 17 VB2 (in) "Input Number 2 of Channel B. Analog input voltage ranges of +/-10 V (AD7863-10), +/-2.5 V (AD7863-3), and 0 V to 2.5 V (AD7863-2).", 18 VA2 (in) "Input Number 2 of Channel A. Analog input voltage ranges of +/-10 V (AD7863-10), +/-2.5 V (AD7863-3), and 0 V to 2.5 V (AD7863-2).", 19 VREF (io) "Reference Input/Output. This pin is connected to the internal reference through a series resistor and is the output reference source for the analog-to-digital converter. The nominal reference voltage is 2.5 V, and this (See Datasheet)", 20 A0 (in) "Multiplexer Select. This input is used in conjunction with C\O\N\V\S\T\ to determine on which pair of channels the conversion is to be performed. If A0 is low when the conversion is initiated, then channels VA1 and VA2 are (See Datasheet)", 21 ~{CS} (in) "Chip Select Input. Active low logic input. The device is selected when this input is active.", 22 ~{RD} (in) "Read Input. Active low logic input. This input is used in conjunction with C\S\ low to enable the data outputs and read a conversion result from the AD7863.", 23 BUSY (out) "Busy Output. The busy output is triggered high by the falling edge of C\O\N\V\S\T\ and remains high until conversion is completed.", 24 VDD (power) "Analog and Digital Positive Supply Voltage, 5.0 V +/- 5%.", 25 VA1 (in) "Input Number 1 of Channel A. Analog input voltage ranges of +/-10 V (AD7863-10), +/-2.5 V (AD7863-3), and 0 V to 2.5 V (AD7863-2).", 26 VB1 (in) "Input Number 1 of Channel B. Analog input voltage ranges of +/-10 V (AD7863-10), +/-2.5 V (AD7863-3), and 0 V to 2.5 V (AD7863-2).", 27 AGND (power) "Analog Ground. Ground reference for mux, track/hold, reference, and DAC circuitry.", 28 DB13 (hiz) "Data Bit 13 (MSB). Three-state TTL output. Output coding is twos complement for the AD7863-10 and AD7863-3. Output coding is straight (natural) binary for the AD7863-2."

## AD7863ARS-3REEL7
designator U?
Quad 14-Bit Analog-to-Digital Converter with Parallel Interface, Simultaneous Sampling, 175KSPS, -40 to +85 degC, RS-28, Reel; Generic Part Number: AD7863; Manufacturer: Analog Devices; PartNumber: AD7863ARS-3REEL7; Resolution (Bits): 14; Channels: 4; Throughput Rate (SPS): 175K; Interface: Par; DatasheetVersion: Rev.B; PackageVersion: 060106-A; PackageReference: RS-28; PackageDescription: 28-Lead Shrink Small Outline Package [SSOP]; Supplier 1: Digi-Key; Supplier Part Number 1: AD7863ARS-3REEL7-ND; Supplier 2: Mouser; Supplier Part Number 2: 584-AD7863ARS-3R7; RoHS: N; Packing: Reel; Mounting Technology: Surface Mount; Code_JEDEC: MO-150-AH; ComponentLink1Description: Manufacturer URL; ComponentLink1URL: http://www.analog.com/en/index.html; ComponentLink2Description: Datasheet; ComponentLink2URL: http://www.analog.com/static/imported-files/data_sheets/AD7863.pdf; ComponentLink3Description: Package Specification; ComponentLink3URL: http://www.analog.com/static/imported-files/packages/32122249223724RS_28.pdf; ComponentLink4Description: Product URL; ComponentLink4URL: http://www.analog.com/en/analog-to-digital-converters/ad-converters/ad7863/products/product.html
footprint RS-28_N (SOP, 28-Leads, Body 10.2x5.3mm, Pitch 0.65mm, IPC Medium Density)
footprint RS-28_L (SOP, 28-Leads, Body 10.2x5.3mm, Pitch 0.65mm, IPC High Density)
footprint RS-28_M (SOP, 28-Leads, Body 10.2x5.3mm, Pitch 0.65mm, IPC Low Density)
pins: 1 DB12 (hiz) "Data Bit 12. Three-state TTL outputs.", 2 DB11 (hiz) "Data Bit 11. Three-state TTL outputs.", 3 DB10 (hiz) "Data Bit 10. Three-state TTL outputs.", 4 DB9 (hiz) "Data Bit 9. Three-state TTL outputs.", 5 DB8 (hiz) "Data Bit 8. Three-state TTL outputs.", 6 DB7 (hiz) "Data Bit 7. Three-state TTL outputs.", 7 DGND (power) "Digital Ground. Ground reference for digital circuitry.", 8 ~{CONVST} (in) "Convert Start Input. Logic input. A high-to-low transition on this input puts both track/holds into their hold mode and starts conversion on both channels.", 9 DB6 (hiz) "Data Bit 6. Three-state TTL outputs.", 10 DB5 (hiz) "Data Bit 5. Three-state TTL outputs.", 11 DB4 (hiz) "Data Bit 4. Three-state TTL outputs.", 12 DB3 (hiz) "Data Bit 3. Three-state TTL outputs.", 13 DB2 (hiz) "Data Bit 2. Three-state TTL outputs.", 14 DB1 (hiz) "Data Bit 1. Three-state TTL outputs.", 15 DB0 (hiz) "Data Bit 0. Three-state TTL outputs.", 16 AGND (power) "Analog Ground. Ground reference for mux, track/hold, reference, and DAC circuitry.", 17 VB2 (in) "Input Number 2 of Channel B. Analog input voltage ranges of +/-10 V (AD7863-10), +/-2.5 V (AD7863-3), and 0 V to 2.5 V (AD7863-2).", 18 VA2 (in) "Input Number 2 of Channel A. Analog input voltage ranges of +/-10 V (AD7863-10), +/-2.5 V (AD7863-3), and 0 V to 2.5 V (AD7863-2).", 19 VREF (io) "Reference Input/Output. This pin is connected to the internal reference through a series resistor and is the output reference source for the analog-to-digital converter. The nominal reference voltage is 2.5 V, and this (See Datasheet)", 20 A0 (in) "Multiplexer Select. This input is used in conjunction with C\O\N\V\S\T\ to determine on which pair of channels the conversion is to be performed. If A0 is low when the conversion is initiated, then channels VA1 and VA2 are (See Datasheet)", 21 ~{CS} (in) "Chip Select Input. Active low logic input. The device is selected when this input is active.", 22 ~{RD} (in) "Read Input. Active low logic input. This input is used in conjunction with C\S\ low to enable the data outputs and read a conversion result from the AD7863.", 23 BUSY (out) "Busy Output. The busy output is triggered high by the falling edge of C\O\N\V\S\T\ and remains high until conversion is completed.", 24 VDD (power) "Analog and Digital Positive Supply Voltage, 5.0 V +/- 5%.", 25 VA1 (in) "Input Number 1 of Channel A. Analog input voltage ranges of +/-10 V (AD7863-10), +/-2.5 V (AD7863-3), and 0 V to 2.5 V (AD7863-2).", 26 VB1 (in) "Input Number 1 of Channel B. Analog input voltage ranges of +/-10 V (AD7863-10), +/-2.5 V (AD7863-3), and 0 V to 2.5 V (AD7863-2).", 27 AGND (power) "Analog Ground. Ground reference for mux, track/hold, reference, and DAC circuitry.", 28 DB13 (hiz) "Data Bit 13 (MSB). Three-state TTL output. Output coding is twos complement for the AD7863-10 and AD7863-3. Output coding is straight (natural) binary for the AD7863-2."

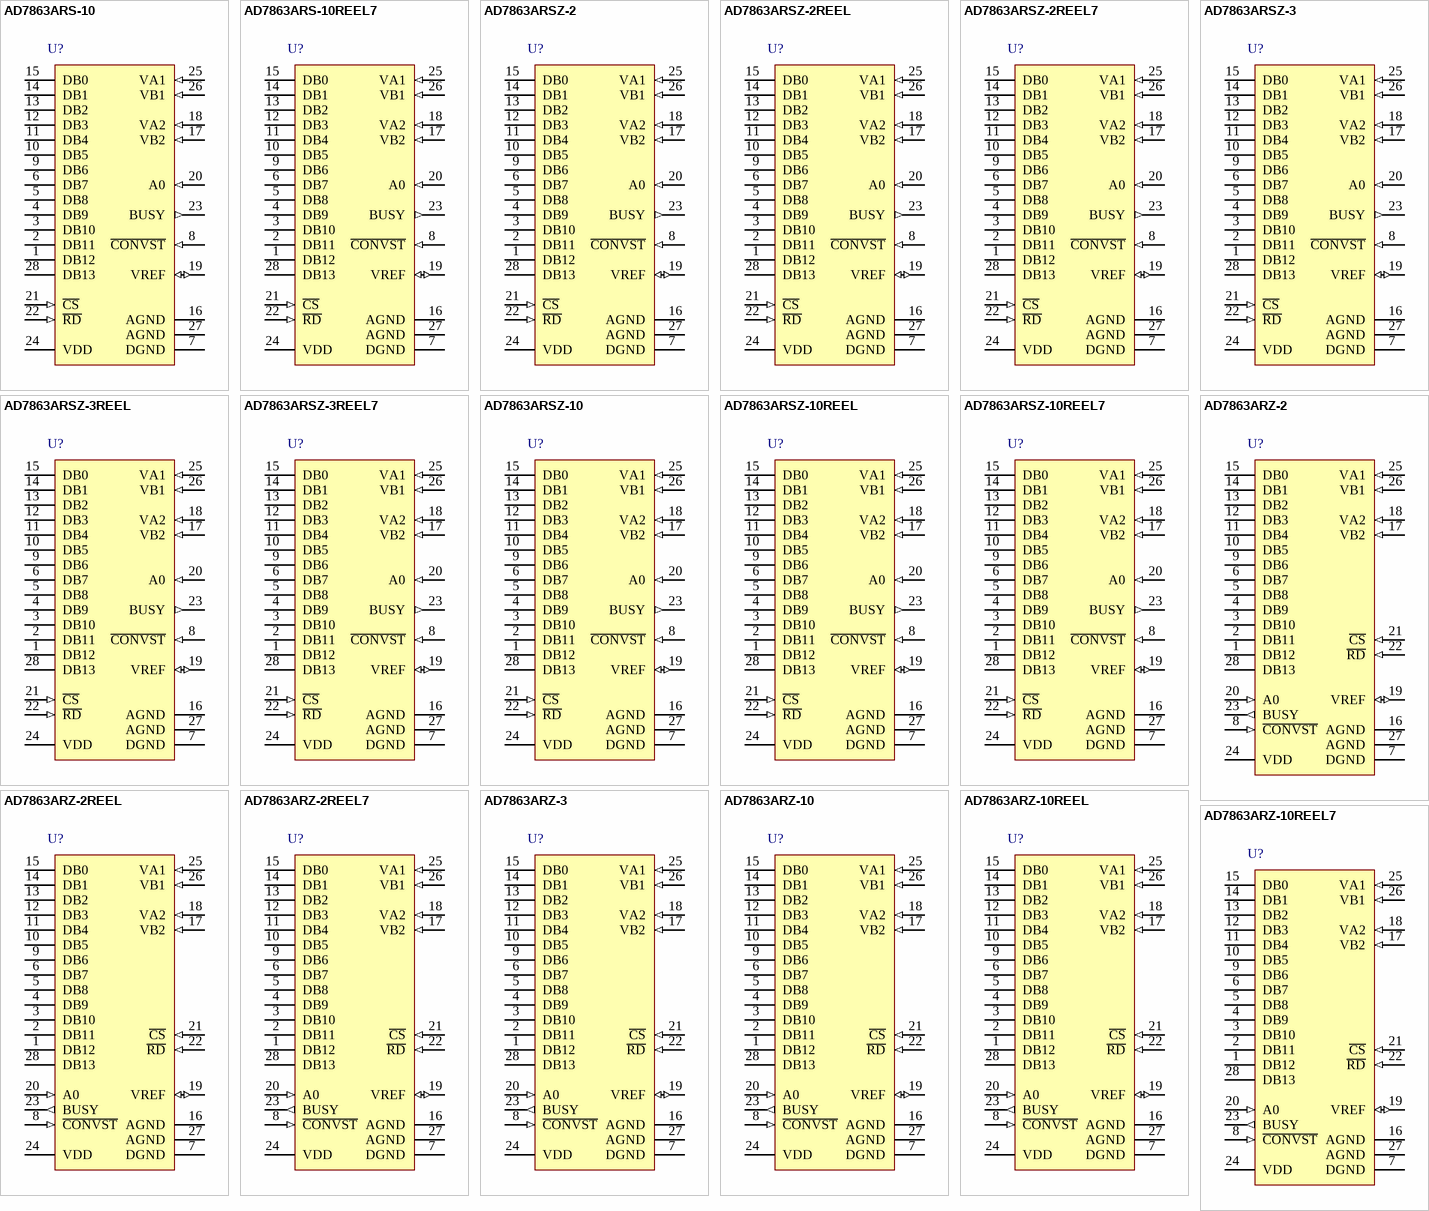
[diagram p73: symbols AD7863ARS-10 to AD7863ARZ-10REEL7]

## AD7863ARS-10
designator U?
Quad 14-Bit Analog-to-Digital Converter with Parallel Interface, Simultaneous Sampling, 175KSPS, -40 to +85 degC, RS-28, Tube; Generic Part Number: AD7863; Manufacturer: Analog Devices; PartNumber: AD7863ARS-10; Resolution (Bits): 14; Channels: 4; Throughput Rate (SPS): 175K; Interface: Par; DatasheetVersion: Rev.B; PackageVersion: 060106-A; PackageReference: RS-28; PackageDescription: 28-Lead Shrink Small Outline Package [SSOP]; Supplier 1: Digi-Key; Supplier Part Number 1: AD7863ARS-10-ND; Supplier 2: Newark; Supplier Part Number 2: 09B6146; Supplier 3: Mouser; Supplier Part Number 3: 584-AD7863ARS-10; RoHS: N; Packing: Tube; Mounting Technology: Surface Mount; Code_JEDEC: MO-150-AH; ComponentLink1Description: Manufacturer URL; ComponentLink1URL: http://www.analog.com/en/index.html; ComponentLink2Description: Datasheet; ComponentLink2URL: http://www.analog.com/static/imported-files/data_sheets/AD7863.pdf; ComponentLink3Description: Package Specification; ComponentLink3URL: http://www.analog.com/static/imported-files/packages/32122249223724RS_28.pdf; ComponentLink4Description: Product URL; ComponentLink4URL: http://www.analog.com/en/analog-to-digital-converters/ad-converters/ad7863/products/product.html
footprint RS-28_N (SOP, 28-Leads, Body 10.2x5.3mm, Pitch 0.65mm, IPC Medium Density)
footprint RS-28_L (SOP, 28-Leads, Body 10.2x5.3mm, Pitch 0.65mm, IPC High Density)
footprint RS-28_M (SOP, 28-Leads, Body 10.2x5.3mm, Pitch 0.65mm, IPC Low Density)
pins: 1 DB12 (hiz) "Data Bit 12. Three-state TTL outputs.", 2 DB11 (hiz) "Data Bit 11. Three-state TTL outputs.", 3 DB10 (hiz) "Data Bit 10. Three-state TTL outputs.", 4 DB9 (hiz) "Data Bit 9. Three-state TTL outputs.", 5 DB8 (hiz) "Data Bit 8. Three-state TTL outputs.", 6 DB7 (hiz) "Data Bit 7. Three-state TTL outputs.", 7 DGND (power) "Digital Ground. Ground reference for digital circuitry.", 8 ~{CONVST} (in) "Convert Start Input. Logic input. A high-to-low transition on this input puts both track/holds into their hold mode and starts conversion on both channels.", 9 DB6 (hiz) "Data Bit 6. Three-state TTL outputs.", 10 DB5 (hiz) "Data Bit 5. Three-state TTL outputs.", 11 DB4 (hiz) "Data Bit 4. Three-state TTL outputs.", 12 DB3 (hiz) "Data Bit 3. Three-state TTL outputs.", 13 DB2 (hiz) "Data Bit 2. Three-state TTL outputs.", 14 DB1 (hiz) "Data Bit 1. Three-state TTL outputs.", 15 DB0 (hiz) "Data Bit 0. Three-state TTL outputs.", 16 AGND (power) "Analog Ground. Ground reference for mux, track/hold, reference, and DAC circuitry.", 17 VB2 (in) "Input Number 2 of Channel B. Analog input voltage ranges of +/-10 V (AD7863-10), +/-2.5 V (AD7863-3), and 0 V to 2.5 V (AD7863-2).", 18 VA2 (in) "Input Number 2 of Channel A. Analog input voltage ranges of +/-10 V (AD7863-10), +/-2.5 V (AD7863-3), and 0 V to 2.5 V (AD7863-2).", 19 VREF (io) "Reference Input/Output. This pin is connected to the internal reference through a series resistor and is the output reference source for the analog-to-digital converter. The nominal reference voltage is 2.5 V, and this (See Datasheet)", 20 A0 (in) "Multiplexer Select. This input is used in conjunction with C\O\N\V\S\T\ to determine on which pair of channels the conversion is to be performed. If A0 is low when the conversion is initiated, then channels VA1 and VA2 are (See Datasheet)", 21 ~{CS} (in) "Chip Select Input. Active low logic input. The device is selected when this input is active.", 22 ~{RD} (in) "Read Input. Active low logic input. This input is used in conjunction with C\S\ low to enable the data outputs and read a conversion result from the AD7863.", 23 BUSY (out) "Busy Output. The busy output is triggered high by the falling edge of C\O\N\V\S\T\ and remains high until conversion is completed.", 24 VDD (power) "Analog and Digital Positive Supply Voltage, 5.0 V +/- 5%.", 25 VA1 (in) "Input Number 1 of Channel A. Analog input voltage ranges of +/-10 V (AD7863-10), +/-2.5 V (AD7863-3), and 0 V to 2.5 V (AD7863-2).", 26 VB1 (in) "Input Number 1 of Channel B. Analog input voltage ranges of +/-10 V (AD7863-10), +/-2.5 V (AD7863-3), and 0 V to 2.5 V (AD7863-2).", 27 AGND (power) "Analog Ground. Ground reference for mux, track/hold, reference, and DAC circuitry.", 28 DB13 (hiz) "Data Bit 13 (MSB). Three-state TTL output. Output coding is twos complement for the AD7863-10 and AD7863-3. Output coding is straight (natural) binary for the AD7863-2."